# EAGLE library part LTD-4608JR (library ABI)
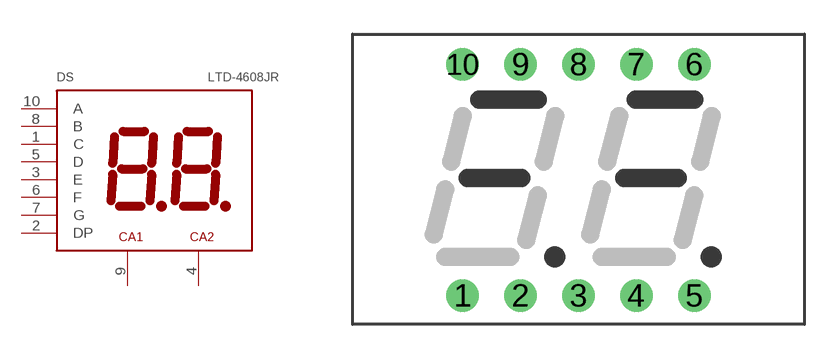
[diagram p9: symbol with the pads of LTD-4608JR; footprint LTD-4608JR]

Designator prefix DS

## LTD-4608JR  [LTD-4608JR]
1  C
2  DP
3  E
4  A2
5  D
6  F
7  G
8  B
9  A1
10  A

## Footprint LTD-4608JR (pad centres in mm)
drill 0.813 pad 1.422 round: 1 -5.08,-5.08; 2 -2.54,-5.08; 3 0,-5.08; 4 2.54,-5.08; 5 5.08,-5.08; 6 5.08,5.08; 7 2.54,5.08; 8 0,5.08; 9 -2.54,5.08; 10 -5.08,5.08